# Altium footprint library basic_pcb.PcbLib: 133 footprints (part 6 of 9)
Each footprint in its own frame and in the unit in brackets; x right, y up, seen from the top. Pads: shape width x height; smd on the part's side, far side on the other; paste and mask are expansions set on the pad; w line width, h text height; cw(c..) or ccw(c..) is an arc to the next point about the centre after c.
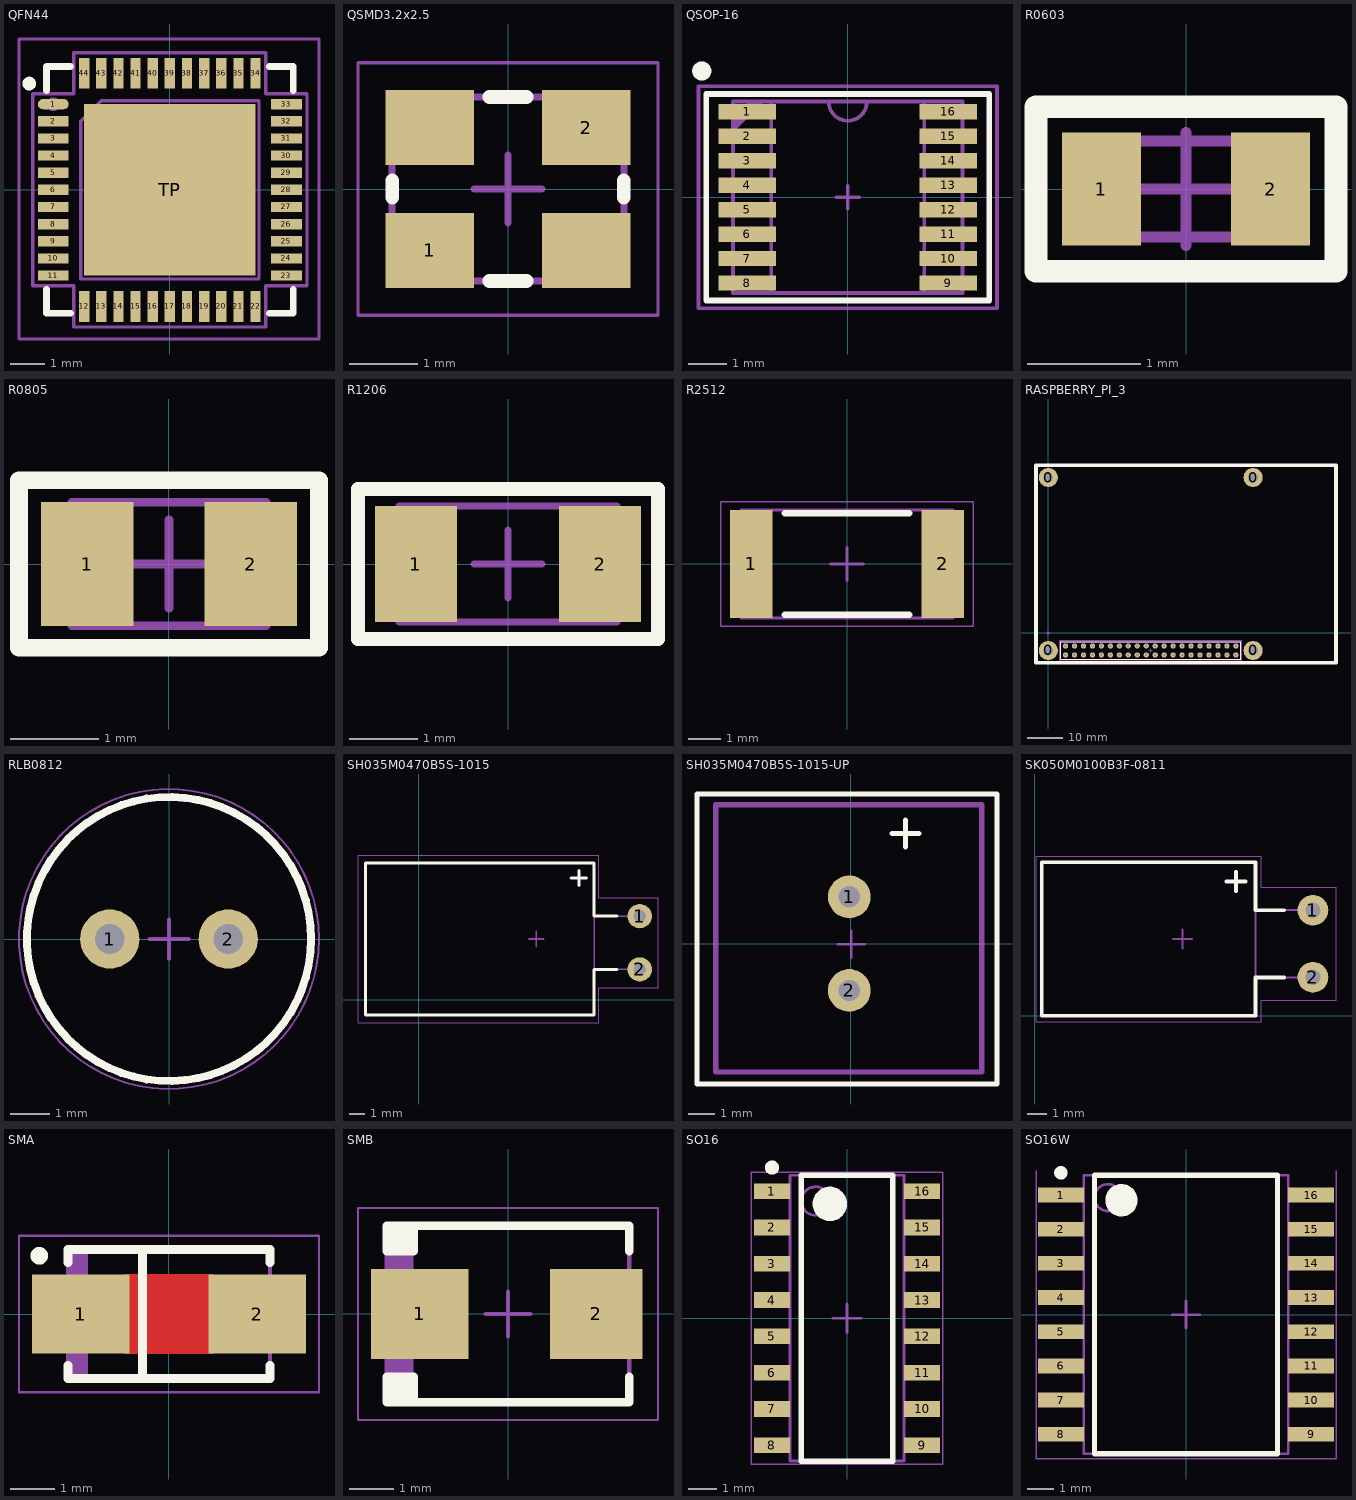
[diagram p5: the footprints below, top view; thin cyan lines are the x and y axes]

## QFN44 [mm]
pads (45):
  oval 0.9x0.3 smd: 1(-3.4,2.5)
  rect 0.9x0.3 smd: 2(-3.4,2) 3(-3.4,1.5) 4(-3.4,1) 5(-3.4,0.5) 6(-3.4,0) 7(-3.4,-0.5) 8(-3.4,-1) 9(-3.4,-1.5) 10(-3.4,-2) 11(-3.4,-2.5) 23(3.4,-2.5) 24(3.4,-2) 25(3.4,-1.5) 26(3.4,-1) 27(3.4,-0.5) 28(3.4,0) 29(3.4,0.5) 30(3.4,1) 31(3.4,1.5) 32(3.4,2) 33(3.4,2.5)
  rect 0.3x0.9 smd: 12(-2.5,-3.4) 13(-2,-3.4) 14(-1.5,-3.4) 15(-1,-3.4) 16(-0.5,-3.4) 17(0,-3.4) 18(0.5,-3.4) 19(1,-3.4) 20(1.5,-3.4) 21(2,-3.4) 22(2.5,-3.4) 34(2.5,3.4) 35(2,3.4) 36(1.5,3.4) 37(1,3.4) 38(0.5,3.4) 39(0,3.4) 40(-0.5,3.4) 41(-1,3.4) 42(-1.5,3.4) 43(-2,3.4) 44(-2.5,3.4)
  rect 5x5 smd: TP(0,0)
Top Overlay:
  circle w0.2: c-4.1,3.1 r0.1
  lines w0.2: -3.6,-2.9 -3.6,-3.6 -2.9,-3.6 ; -3.6,2.9 -3.6,3.6 -2.9,3.6 ; 2.9,-3.6 3.6,-3.6 3.6,-2.9 ; 2.9,3.6 3.6,3.6 3.6,2.9
Top Value:
  text ".Comment" at -2.189,-0.952 h1.52
Top Designator:
  text ".Designator" at -2.617,0.272 h1.52
Top Component Outline:
  circle w0.2: c-3.4,2.5 r0.1
  lines w0.1: -4,-2.8 -2.8,-2.8 -2.8,-4 2.8,-4 2.8,-2.8 4,-2.8 4,2.8 2.8,2.8 2.8,4 -2.8,4 -2.8,2.8 -4,2.8 -4,-2.8 ; -2.6,-2.6 2.6,-2.6 2.6,2.6 -2,2.6 -2.6,2 -2.6,-2.6
Top Courtyard:
  lines w0.1: -0.5,0 0.5,0 ; 0,-0.5 0,0.5 ; -4.4,-4.35 4.35,-4.35 4.35,4.4 -4.4,4.4 -4.4,-4.35
3D body "User Library-QFN 44.STEP": height 0.85, standoff 0, extent -3.501,-3.501 3.501,3.501

## QSMD3.2x2.5 [mm]
height 1.2
pads (4):
  rect 1.3x1.1 smd: 1(-1.15,-0.9) 2(1.15,0.9) ""(-1.15,0.9) ""(1.15,-0.9)
Top Overlay:
  lines w0.2: -1.7,-0.125 -1.7,0.125 ; -0.275,-1.35 0.275,-1.35 ; -0.275,1.35 0.275,1.35 ; 1.7,-0.125 1.7,0.125
Top Value:
  text ".Comment" at -2.189,-4.152 h1.52
Top Designator:
  text ".Designator" at -2.617,-2.928 h1.52
Top Component Outline:
  lines w0.1: -1.7,-1.35 1.7,-1.35 1.7,1.35 -1.7,1.35 -1.7,-1.35
Top Courtyard:
  lines w0.05: -2.2,-1.85 2.2,-1.85 2.2,1.85 -2.2,1.85 -2.2,-1.85
  lines w0.1: -0.5,0 0.5,0 ; 0,-0.5 0,0.5
3D body "User Library-Geyer_KX7T.STEP": height 0.81, standoff 0, extent -1.642,-1.256 1.572,1.244

## QSOP-16 [mm]
pads (16):
  rect 1.5x0.4 smd: 1(-2.625,2.237) 2(-2.625,1.597) 3(-2.625,0.957) 4(-2.625,0.318) 5(-2.625,-0.323) 6(-2.625,-0.963) 7(-2.625,-1.603) 8(-2.625,-2.243) 9(2.625,-2.243) 10(2.625,-1.603) 11(2.625,-0.963) 12(2.625,-0.323) 13(2.625,0.317) 14(2.625,0.957) 15(2.625,1.597) 16(2.625,2.237)
Top Overlay:
  circle w0.25: c-3.815,3.3 r0.125
  lines w0.15: -3.7,-2.7 3.7,-2.7 3.7,2.7 -3.7,2.7 -3.7,-2.7
Top Value:
  text ".Comment" at -2.189,-5.252 h1.52
Top Designator:
  text ".Designator" at -2.617,-4.028 h1.52
Top Component Outline:
  lines w0.1: -2.975,1.975 -2.475,2.475 -2.525,2.475 -2.975,2.025 ; -2.813,2.05 -3,1.75 ; -2.4,2.5 -3,1.9 ; -2,-2.5 -2,2.5 ; -0.5,2.5 ccw(c0,2.5) 0.5,2.5 ; 2,-2.5 2,2.5 ; -3,1.75 -2.25,2.5 -3,1.9 ; -3,1.75 -3,1.9 ; -3,-2.5 -3,2.5 3,2.5 3,-2.5 -3,-2.5
Top Courtyard:
  lines w0.1: -0.3,0 0,0 ; 0,-0.3 0,0 ; 0,0.3 0,0 ; 0.3,0 0,0 ; -3.9,-2.9 -3.9,2.9 3.9,2.9 3.9,1.9 3.9,-2.9 -3.9,-2.9
3D body "User Library-MAX_QSOP16.STEP": height 1.76, standoff -0.01, extent -3.01,-2.48 3.01,2.5

## R0603 [mm]
height 0.45
pads (2):
  rect 0.7x1 smd: 1(-0.75,0) 2(0.75,0)
Top Overlay:
  lines w0.2: -1.33,-0.73 -1.33,0.73 1.33,0.73 1.33,-0.73 -1.33,-0.73
Top Value:
  text ".Comment" at 1.492,-0.952 h1.52
Top Designator:
  text ".Designator" at 1.482,0.271 h1.52
Top Component Outline:
  lines w0.1: -0.8,-0.425 0.8,-0.425 0.8,0.425 -0.8,0.425 -0.8,-0.425
Top Courtyard:
  lines w0.05: -1.33,-0.73 -1.33,0.73 1.33,0.73 1.33,-0.73 -1.33,-0.73
  lines w0.1: -0.5,0 0.5,0 ; 0,-0.5 0,0.5
3D body: height 0.45, standoff 0, extent -0.8,-0.425 0.8,0.425

## R0805 [mm] "Chip Resistor, 2-Leads, Body 2,10x1,30mm, IPC Medium Density"
height 0.55
pads (2):
  rect 1.05x1.4 smd: 1(-0.925,0) 2(0.925,0)
Top Overlay:
  lines w0.2: -1.7,-0.95 -1.7,0.95 1.7,0.95 1.7,-0.95 -1.7,-0.95
Top Value:
  text ".Comment" at 1.892,-0.952 h1.52
Top Designator:
  text ".Designator" at 1.882,0.271 h1.52
Top Component Outline:
  lines w0.1: -1.1,-0.7 -1.1,0.7 1.1,0.7 1.1,-0.7 -1.1,-0.7
Top Courtyard:
  lines w0.05: -1.7,-0.95 1.7,-0.95 1.7,0.95 -1.7,0.95 -1.7,-0.95
  lines w0.1: -0.5,0 0.5,0 ; 0,-0.5 0,0.5
3D body "R0805.step": height 0.76, standoff 0, extent -1.15,-0.675 1.15,0.675

## R1206 [mm] "Chip Resistor, 2-Leads, Body 3,10x1,60mm, IPC Medium Density"
height 0.6
pads (2):
  rect 1.2x1.7 smd: 1(-1.35,0) 2(1.35,0)
Top Overlay:
  lines w0.2: -2.2,-1.1 -2.2,1.1 2.2,1.1 2.2,-1.1 -2.2,-1.1
Top Value:
  text ".Comment" at 2.392,-1.052 h1.52
Top Designator:
  text ".Designator" at 2.382,0.171 h1.52
Top Component Outline:
  lines w0.1: -1.6,-0.85 -1.6,0.85 1.6,0.85 1.6,-0.85 -1.6,-0.85
Top Courtyard:
  lines w0.05: -2.2,-1.1 2.2,-1.1 2.2,1.1 -2.2,1.1 -2.2,-1.1
  lines w0.1: -0.5,0 0.5,0 ; 0,-0.5 0,0.5
3D body "R1206.step": height 0.6, standoff 0, extent -1.6,-0.8 1.6,0.8

## R2512 [mm] "Chip Resistor, 2-Leads, Body 6,35x3,20mm, IPC Medium Density"
height 0.6
pads (2):
  rect 1.3x3.3 smd: 1(-2.925,0) 2(2.925,0)
Top Overlay:
  lines w0.2: -1.9,-1.55 1.9,-1.55 ; -1.9,1.55 1.9,1.55
Top Value:
  text ".Comment" at -2.189,-0.952 h1.52
Top Designator:
  text ".Designator" at -2.617,0.272 h1.52
Top Component Outline:
  lines w0.1: -3.225,-1.65 -3.225,1.65 3.225,1.65 3.225,-1.65 -3.225,-1.65
Top Courtyard:
  lines w0.05: -3.85,-1.9 -3.85,1.9 3.85,1.9 3.85,-1.9 -3.85,-1.9
  lines w0.1: -0.5,0 0.5,0 ; 0,-0.5 0,0.5
3D body "R2512.step": height 0.6, standoff 0, extent -3.2,-1.6 3.2,1.6

## RASPBERRY_PI_3 [mm]
pads (44):
  round 5.4 hole 2.75: 0(0,-5) 0(0,44) 0(58,-5) 0(58,44)
  round 1.5 hole 0.75: 1(4.87,-6.27) 2(4.87,-3.73) 3(7.41,-6.27) 4(7.41,-3.73) 5(9.95,-6.27) 6(9.95,-3.73) 7(12.49,-6.27) 8(12.49,-3.73) 9(15.03,-6.27) 10(15.03,-3.73) 11(17.57,-6.27) 12(17.57,-3.73) 13(20.11,-6.27) 14(20.11,-3.73) 15(22.65,-6.27) 16(22.65,-3.73) 17(25.19,-6.27) 18(25.19,-3.73) 19(27.73,-6.27) 20(27.73,-3.73) 21(30.27,-6.27) 22(30.27,-3.73) 23(32.81,-6.27) 24(32.81,-3.73) 25(35.35,-6.27) 26(35.35,-3.73) 27(37.89,-6.27) 28(37.89,-3.73) 29(40.43,-6.27) 30(40.43,-3.73) 31(42.97,-6.27) 32(42.97,-3.73) 33(45.51,-6.27) 34(45.51,-3.73) 35(48.05,-6.27) 36(48.05,-3.73) 37(50.59,-6.27) 38(50.59,-3.73) 39(53.13,-6.27) 40(53.13,-3.73)
Top Overlay:
  lines w0.2: 3.5,-7.5 3.5,-2.5 54.5,-2.5 54.5,-7.5 3.5,-7.5
  lines w1: -3.5,-8.5 -3.5,47.5 81.5,47.5 81.5,-8.5 -3.5,-8.5
Top Value:
  text ".Comment" at -2.189,-0.952 h1.52
Top Designator:
  text ".Designator" at -2.617,0.272 h1.52
Top Component Outline:
  lines w0.1: 54.5,-7.5 3.5,-7.5 3.5,-2.5 54.5,-2.5 ; -3.5,-8.5 -3.5,47.5 81.5,47.5 81.5,-8.5 -3.5,-8.5
Top Courtyard:
  lines w0.05: 28.5,-5 29.5,-5 ; 29,-5.5 29,-4.5 ; 3.2,-7.85 54.8,-7.85 54.8,-2.15 3.2,-2.15 3.2,-7.85
  lines w0.1: -0.5,0 0.5,0 ; 0,-0.5 0,0.5
3D body "Raspberry Pi 3.STEP": height 14.6, standoff -3.99, extent -5.763,-8.5 83.874,48.811
3D body "User Library-PBD2_54-40.step": height 8.5, standoff -2.6, extent 3.6,-7.53 54.4,-2.45

## RLB0812 [mm] "Èíäóêòèâíîñòü 6.7õ10ìì"
height 11
pads (2):
  round 1.5 hole 0.75: 1(-1.5,0) 2(1.5,0)
Top Overlay:
  circle w0.2: c0,0 r3.6
Top Value:
  text ".Comment" at -2.189,-1.952 h1.52
Top Designator:
  text ".Designator" at -2.617,1.072 h1.52
Top Component Outline:
  circle w0.1: c0,0 r3.6
Top Courtyard:
  circle w0.05: c0,0 r3.8
  lines w0.1: -0.5,0 0.5,0 ; 0,-0.5 0,0.5
3D body "User Library-RLB 0812.STEP": height 10, standoff -5, extent -3.35,-3.35 3.35,3.35

## SH035M0470B5S-1015 [mm] "10x15"
height 8
pads (2):
  round 1.6 hole 0.8: 1(14.5,5.5) 2(14.5,2)
Top Overlay:
  lines w0.2: 10,8 11,8 ; 10.5,7.5 10.5,8.5 ; 13,2 11.5,2 11.5,1 11.5,-1 -3.5,-1 -3.5,9 11.5,9 11.5,7 11.5,5.5 13,5.5
Top Value:
  text ".Comment" at 5.978,2.526 h1.2
Top Designator:
  text ".Designator" at 5.122,4.865 h1.5
Top Component Outline:
  lines w0.1: 11.5,2 14.5,2 ; 11.5,5.5 14.5,5.5 ; -3.5,-1 11.5,-1 11.5,9 -3.5,9 -3.5,-1
Top Courtyard:
  lines w0.05: -4,-1.5 11.8,-1.5 11.8,0.8 15.7,0.8 15.7,6.7 11.8,6.7 11.8,9.5 -4,9.5 -4,-1.5
  lines w0.1: 7.2,4 8.2,4 ; 7.7,3.5 7.7,4.5
3D body: height 4.3, standoff 3.7, extent 11.5,1.7 14.5,2.3
3D body: height 4.3, standoff 3.7, extent 11.5,5.201 14.5,5.8
3D body: height 4.3, standoff 3.7, extent 14.2,1.7 14.8,2.3
3D body: height 4.3, standoff 3.7, extent 14.198,5.2 14.798,5.8
3D body: height 4, standoff -4, extent 14.202,1.701 14.8,2.3
3D body: height 4, standoff -4, extent 14.2,5.201 14.798,5.8
3D body: height 10, standoff 0, extent -3.5,-1 11.5,9

## SH035M0470B5S-1015-UP [mm] "10x15"
height 8
pads (2):
  round 1.6 hole 0.8: 1(-0.05,1.75) 2(-0.05,-1.75)
Top Overlay:
  lines w0.2: 1.55,4.125 2.55,4.125 ; 2.05,3.625 2.05,4.625 ; -5.75,-5.25 -5.75,5.6 5.475,5.6 5.475,-5.25 -5.75,-5.25
Top Value:
  text ".Comment" at -1.697,-1.499 h1.2
Top Designator:
  text ".Designator" at -2.553,0.84 h1.5
Top Component Outline:
  lines w0.2: -5.05,-4.8 -5.05,5.2 4.9,5.2 4.9,-4.8 -5.05,-4.8
Top Courtyard:
  lines w0.1: -0.475,-0.025 0.525,-0.025 ; 0.025,-0.525 0.025,0.475
3D body: height 20, standoff 5, extent -5.1,-4.825 4.9,5.175
3D body: height 4, standoff -4, extent -0.35,1.451 0.248,2.05
3D body: height 4, standoff -4, extent -0.348,-2.049 0.25,-1.45
3D body: height 4.3, standoff 3.7, extent -0.352,1.45 0.248,2.05
3D body: height 4.3, standoff 3.7, extent -0.35,-2.05 0.25,-1.45
3D body: height 7, standoff 4, extent -0.325,1.475 0.275,2.075
3D body: height 7, standoff 4, extent -0.35,-2.05 0.25,-1.45

## SK050M0100B3F-0811 [mm] "8?11"
height 8
pads (2):
  round 1.6 hole 0.8: 1(14.5,5.5) 2(14.5,2)
Top Overlay:
  lines w0.2: 10,7 11,7 ; 10.5,6.5 10.5,7.5 ; 13,2 11.5,2 11.5,1 11.5,0 0.375,0 0.375,8 11.5,8 11.5,7 11.5,5.5 13,5.5
Top Value:
  text ".Comment" at 5.978,2.526 h1.2
Top Designator:
  text ".Designator" at 5.122,4.865 h1.5
Top Component Outline:
  lines w0.1: 11.5,2 14.5,2 ; 11.5,5.5 14.5,5.5 ; 0.35,0 11.5,0 11.5,8 0.35,8 0.35,0
Top Courtyard:
  lines w0.05: 0.075,-0.3 11.8,-0.3 11.8,0.8 15.7,0.8 15.7,6.7 11.8,6.7 11.8,8.3 0.075,8.3 0.075,-0.3
  lines w0.1: 7.2,4 8.2,4 ; 7.7,3.5 7.7,4.5
3D body: height 4.3, standoff 3.7, extent 11.5,1.7 14.5,2.3
3D body: height 4.3, standoff 3.7, extent 11.5,5.201 14.5,5.8
3D body: height 4.3, standoff 3.7, extent 14.2,1.7 14.8,2.3
3D body: height 4.3, standoff 3.7, extent 14.198,5.2 14.798,5.8
3D body: height 4, standoff -4, extent 14.202,1.701 14.8,2.3
3D body: height 4, standoff -4, extent 14.2,5.201 14.798,5.8
3D body: height 8, standoff 0, extent 0.45,0.075 11.45,8.075

## SMA [mm]
height 2.67
pads (2):
  rect 2.2x1.8 smd: 1(-2,0) 2(2,0)
Top Layer:
  pour cut-out: -1,0.9 -1,-0.9 1,-0.9 1,0.9
Top Overlay:
  circle w0.2: c-2.94,1.32 r0.1
  lines w0.2: -2.29,-1.17 -2.29,-1.46 2.29,-1.46 2.29,-1.17 ; -2.29,1.17 -2.29,1.46 2.29,1.46 2.29,1.17 ; -0.6,-1.45 -0.6,1.45
Top Value:
  text ".Comment" at -3.408,-4.052 h1.52
Top Designator:
  text ".Designator" at -3.418,-2.829 h1.52
Top Component Outline:
  lines w0.1: -2.29,-0.82 -2.8,-0.82 -2.8,0.82 -2.29,0.82 ; -2.19,-1.44 -2.19,1.46 ; -2.09,-1.44 -2.09,1.46 ; -1.99,-1.44 -1.99,1.46 ; -1.89,-1.44 -1.89,1.46 ; 2.29,-0.82 2.8,-0.82 2.8,0.82 2.29,0.82 ; -2.29,-1.46 -2.29,1.46 2.29,1.46 2.29,-1.46 -2.29,-1.46
Top Courtyard:
  lines w0.05: -3.4,-1.775 -3.4,1.775 3.4,1.775 3.4,-1.775 -3.4,-1.775
  lines w0.1: -0.5,0 0.5,0 ; 0,-0.5 0,0.5
3D body "SMA.STEP": height 2.7, standoff 0, extent -2.8,-1.475 2.8,1.475

## SMB [mm] "Molded Diode, 2-Leads, Body 4,31x3,62mm, IPC High Density"
height 2.44
pads (2):
  rect 2.2x2.05 smd: 1(-2,0)
  rect 2.1x2.05 smd: 2(2,0)
Top Overlay:
  rectangle: -2.75,1.425 -2.125,2
  rectangle: -2.75,-2 -2.125,-1.425
  lines w0.2: -2.145,-2 -2.145,-1.425 -2.75,-1.425 -2.75,-2 2.75,-2 2.75,-1.425 ; -2.145,2 -2.145,1.425 -2.75,1.425 -2.75,2 2.75,2 2.75,1.425
Top Value:
  text ".Comment" at -3.408,-4.652 h1.52
Top Designator:
  text ".Designator" at -3.418,-3.429 h1.52
Top Component Outline:
  rectangle: -2.76,-1.97 -2.145,1.97
  lines w0.1: -2.75,-1.97 2.75,-1.97 2.75,1.97 -2.75,1.97 -2.75,-1.97
Top Courtyard:
  lines w0.05: -3.4,-2.4 3.4,-2.4 3.4,2.4 -3.4,2.4 -3.4,-2.4
  lines w0.1: -0.5,0 0.5,0 ; 0,-0.5 0,0.5
3D body "SMB.STEP": height 2.45, standoff 0.03, extent -2.75,-1.95 2.75,1.95

## SO16 [mm] "SOIC, 16-Leads, Body 9,90x3,90mm, Pitch 1,27mm, IPC High Density"
height 1.75
pads (16):
  rect 1.25x0.55 smd: 1(-2.625,4.445) 2(-2.625,3.175) 3(-2.625,1.905) 4(-2.625,0.635) 5(-2.625,-0.635) 6(-2.625,-1.905) 7(-2.625,-3.175) 8(-2.625,-4.445) 9(2.625,-4.445) 10(2.625,-3.175) 11(2.625,-1.905) 12(2.625,-0.635) 13(2.625,0.635) 14(2.625,1.905) 15(2.625,3.175) 16(2.625,4.445)
Top Overlay:
  circle w0.6: c-0.6,4 r0.3
  circle w0.25: c-2.625,5.27 r0.125
  lines w0.2: -1.6,-5 1.6,-5 1.6,5 -1.6,5 -1.6,-5
Top Value:
  text ".Comment" at 1.052,-4.508 h1.52
Top Designator:
  text ".Designator" at -0.171,-4.518 h1.52
Top Component Outline:
  circle w0.1: c-1.1,4.1 r0.5
  lines w0.1: -2,-5 2,-5 2,5 -2,5 -2,-5
Top Courtyard:
  lines w0.05: -3.35,-5.1 3.35,-5.1 3.35,5.1 -3.35,5.1 -3.35,-5.1
  lines w0.1: -0.5,0 0.5,0 ; 0,-0.5 0,0.5

## SO16W [mm] "SOIC, 16-Leads, Body 10,30x7,50mm, Pitch 1,27mm, IPC High Density"
height 2.65
pads (16):
  rect 1.7x0.55 smd: 1(-4.65,4.445) 2(-4.65,3.175) 3(-4.65,1.905) 4(-4.65,0.635) 5(-4.65,-0.635) 6(-4.65,-1.905) 7(-4.65,-3.175) 8(-4.65,-4.445) 9(4.65,-4.445) 10(4.65,-3.175) 11(4.65,-1.905) 12(4.65,-0.635) 13(4.65,0.635) 14(4.65,1.905) 15(4.65,3.175) 16(4.65,4.445)
Top Overlay:
  circle w0.25: c-4.65,5.27 r0.125
  circle w0.6: c-2.4,4.25 r0.3
  lines w0.2: -3.4,-5.175 -3.4,5.175 3.4,5.175 3.4,-5.175 -3.4,-5.175
Top Value:
  text ".Comment" at 0.952,-2.189 h1.52
Top Designator:
  text ".Designator" at -0.272,-2.617 h1.52
Top Component Outline:
  circle w0.1: c-2.9,4.35 r0.5
  lines w0.1: -3.8,-5.175 -3.8,5.175 3.8,5.175 3.8,-5.175 -3.8,-5.175
Top Courtyard:
  lines w0.05: -5.575,5.35 -5.575,-5.35 5.575,-5.35 5.575,5.35
  lines w0.1: -0.5,0 0.5,0 ; 0,-0.5 0,0.5
3D body "User Library-SO-16W.STEP": height 2.48, standoff 0, extent -5.18,-5.167 5.13,5.163